# EAGLE library part OLIMEX_IC_GL850G (library iMX233-OLINUXINO-MINI_Rev_C)
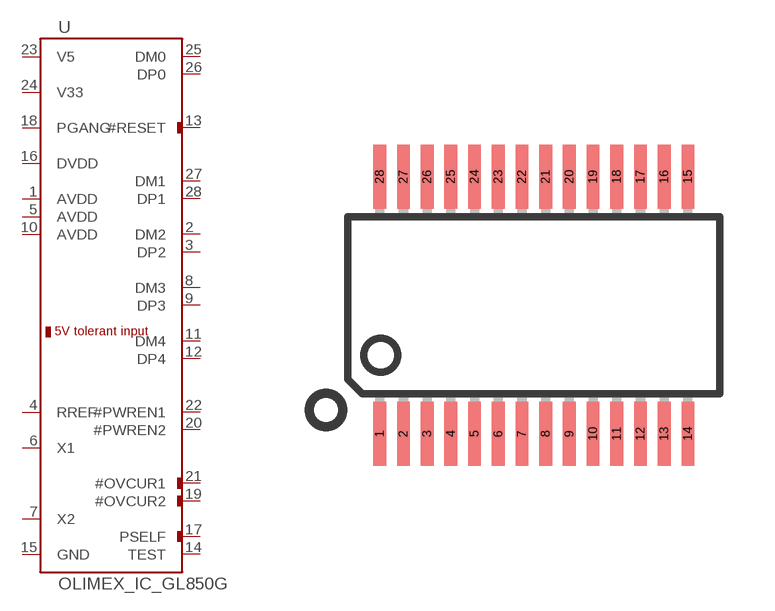
[diagram p4: symbol with the pads of OLIMEX_IC_SSOP28; footprint OLIMEX_IC_SSOP28]

Designator prefix U

## OLIMEX_IC_GL850G  [OLIMEX_IC_SSOP28]
1  AVDD  pwr
2  DM2
3  DP2
4  RREF
5  AVDD  pwr
6  X1  in
7  X2  out
8  DM3
9  DP3
10  AVDD  pwr
11  DM4
12  DP4
13  #RESET
14  TEST  in
15  GND  pwr
16  DVDD  pwr
17  PSELF
18  PGANG
19  #OVCUR2
20  #PWREN2  out
21  #OVCUR1
22  #PWREN1  out
23  V5  pwr
24  V33  pwr
25  DM0
26  DP0
27  DM1
28  DP1

## Footprint OLIMEX_IC_SSOP28 (pad centres in mm)
SSOP28 This package is designed by Penko according to PIC18F24J50 datasheet. Pitch:0.65mm Pad Width:0.25mm Pad Distance(Out edge to Out edge): 7.80mm Dimensions:10.20x7.80x2.00
smd 0.35 x 1.75: 1 -4.225,-3.525; 2 -3.575,-3.525; 3 -2.925,-3.525; 4 -2.275,-3.525; 5 -1.625,-3.525; 6 -0.975,-3.525; 7 -0.325,-3.525; 8 0.325,-3.525; 9 0.975,-3.525; 10 1.625,-3.525; 11 2.275,-3.525; 12 2.925,-3.525; 13 3.575,-3.525; 14 4.225,-3.525; 15 4.225,3.525; 16 3.575,3.525; 17 2.925,3.525; 18 2.275,3.525; 19 1.625,3.525; 20 0.975,3.525; 21 0.325,3.525; 22 -0.325,3.525; 23 -0.975,3.525; 24 -1.625,3.525; 25 -2.275,3.525; 26 -2.925,3.525; 27 -3.575,3.525; 28 -4.225,3.525